# Altium schematic symbol library Schlib.SchLib: 1 symbol
Pins are listed as number, name and electrical type; pins without a type are passive.

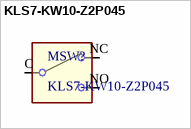
[diagram p0: symbol KLS7-KW10-Z2P045]

## KLS7-KW10-Z2P045
designator MSW?
Microswitch with a paw
footprint KLS7-KW10 SPDT Vertical (Microswitch SPDT)
pins: C, NC, NO